# EAGLE library part 62910416121 (library Wurth_Elektronik_Electromechanic_Input-Output_Connectors_rev16a)
WR-COM SMT Horizontal USB Type B,4 pins=>Code : Con_I-O_COM_USB-2.0_B_62910416121_ <http://katalog.we-online.de/media/images/eican/Con_I-O_COM_USB-2.0_B_62910416121__pf2.jpg> Details see: http://katalog.we-online.de/en/em/629_104_161_21 Created 2014-07-10, Karrer Zheng 2014 (C) Würth Elektronik
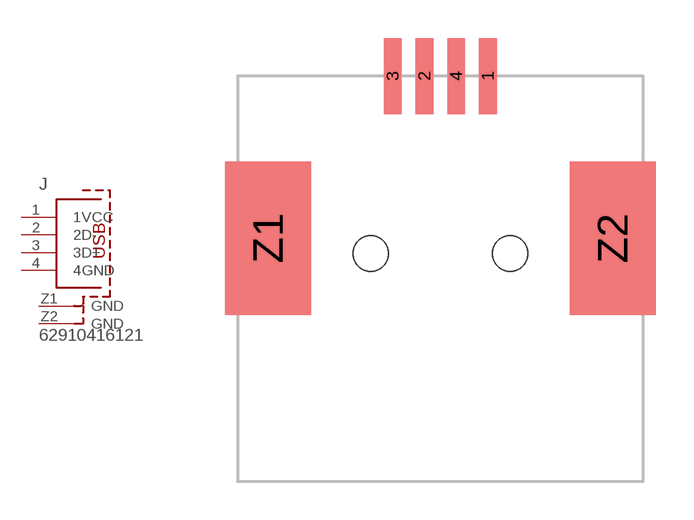
[diagram p70: symbol with the pads of 62910416121; footprint 62910416121]

Designator prefix J

## 62910416121  [62910416121]
1  1VCC
2  2D-
3  3D+
4  4GND
Z1  GND
Z2  GND

## Footprint 62910416121 (pad centres in mm)
WR-COM SMT Horizontal USB Type B, 4 pins
smd 0.7 x 3: 1 1.875,0; 2 -0.625,0; 3 -1.875,0; 4 0.625,0
smd 3.4 x 6.04: Z1 -6.8,-6.4; Z2 6.8,-6.4
hole 1.4 at -2.75,-7
hole 1.4 at 2.75,-7